# EAGLE library part DS1337 (library maxim)
Serial I2C Real Time Clock DALLAS Semiconductor
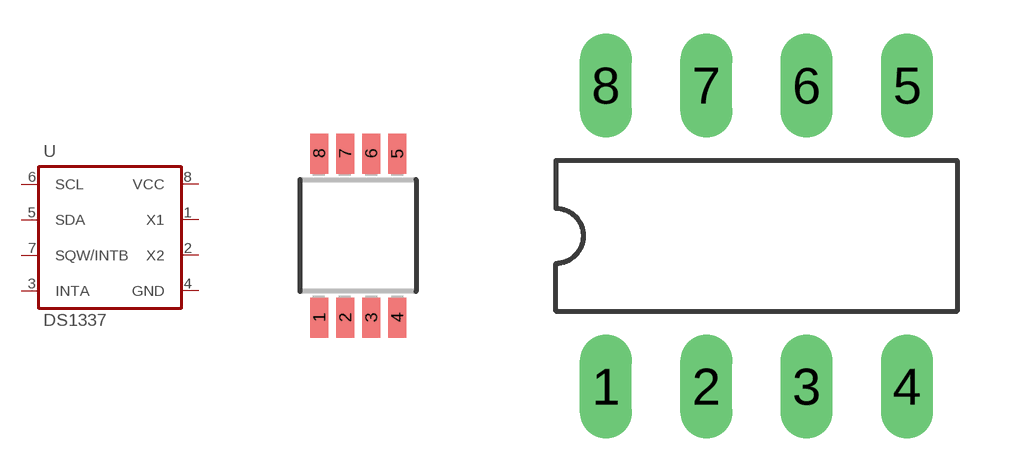
[diagram p394: symbol with the pads of MSOP8; footprints MSOP8, DIL08]

Designator prefix U

## DS1337U (P1I: o)  [MSOP8]
1  X1  pas
2  X2  pas
3  INTA  out
4  GND  pwr
5  SDA
6  SCL
7  SQW/INTB  out
8  VCC  pwr

## DS1337 (P1I: o)  [DIL08]
Pads as for MSOP8

## DS1337S (P1I: o)  [SO08]
Pads as for MSOP8

## Footprint MSOP8 (pad centres in mm)
Micro Small Outline Package
smd 0.45 x 1: 1 -0.975,-2.05; 2 -0.325,-2.05; 3 0.325,-2.05; 4 0.975,-2.05; 5 0.975,2.05; 6 0.325,2.05; 7 -0.325,2.05; 8 -0.975,2.05

## Footprint DIL08 (pad centres in mm)
Dual In Line Package
drill 0.813 long: 1 -3.81,-3.81; 2 -1.27,-3.81; 3 1.27,-3.81; 4 3.81,-3.81; 5 3.81,3.81; 6 1.27,3.81; 7 -1.27,3.81; 8 -3.81,3.81

## Footprint SO08 (pad centres in mm)
SMALL OUTLINE INTEGRATED CIRCUIT body 3.9 mm/JEDEC MS-012AA
smd 0.56 x 2: 1 -1.905,-2.6; 2 -0.635,-2.6; 3 0.635,-2.6; 4 1.905,-2.6; 5 1.905,2.6; 6 0.635,2.6; 7 -0.635,2.6; 8 -1.905,2.6